# EAGLE library part CH32V303RCT6 (library _mtvl_ic)
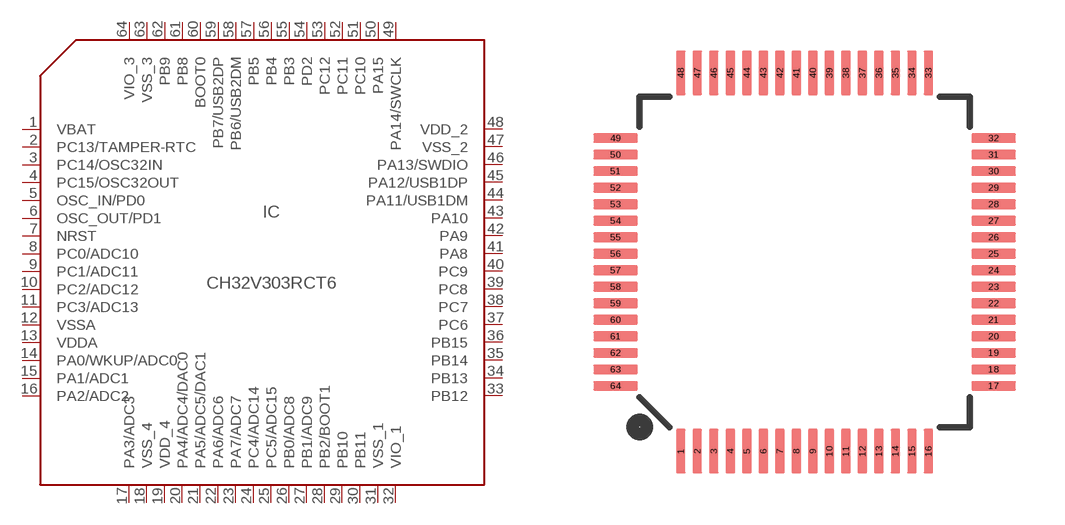
[diagram p65: symbol with the pads of LQFP-64; footprint LQFP-64]

Designator prefix IC

## CH32V303RCT6  [LQFP-64]
1  VBAT  in
2  PC13/TAMPER-RTC
3  PC14/OSC32IN
4  PC15/OSC32OUT
5  OSC_IN/PD0
6  OSC_OUT/PD1
7  NRST  in
8  PC0/ADC10
9  PC1/ADC11
10  PC2/ADC12
11  PC3/ADC13
12  VSSA  sup
13  VDDA  sup
14  PA0/WKUP/ADC0
15  PA1/ADC1
16  PA2/ADC2
17  PA3/ADC3
18  VSS_4  sup
19  VDD_4  sup
20  PA4/ADC4/DAC0
21  PA5/ADC5/DAC1
22  PA6/ADC6
23  PA7/ADC7
24  PC4/ADC14
25  PC5/ADC15
26  PB0/ADC8
27  PB1/ADC9
28  PB2/BOOT1
29  PB10
30  PB11
31  VSS_1  sup
32  VIO_1  sup
33  PB12
34  PB13
35  PB14
36  PB15
37  PC6
38  PC7
39  PC8
40  PC9
41  PA8
42  PA9
43  PA10
44  PA11/USB1DM
45  PA12/USB1DP
46  PA13/SWDIO
47  VSS_2  sup
48  VDD_2  sup
49  PA14/SWCLK
50  PA15
51  PC10
52  PC11
53  PC12
54  PD2
55  PB3
56  PB4
57  PB5
58  PB6/USB2DM
59  PB7/USB2DP
60  BOOT0  in
61  PB8
62  PB9
63  VSS_3
64  VIO_3

## Footprint LQFP-64 (pad centres in mm)
smd 0.29 x 1.35: 1 -3.75,-5.725; 2 -3.25,-5.725; 3 -2.75,-5.725; 4 -2.25,-5.725; 5 -1.75,-5.725; 6 -1.25,-5.725; 7 -0.75,-5.725; 8 -0.25,-5.725; 9 0.25,-5.725; 10 0.75,-5.725; 11 1.25,-5.725; 12 1.75,-5.725; 13 2.25,-5.725; 14 2.75,-5.725; 15 3.25,-5.725; 16 3.75,-5.725; 33 3.75,5.725; 34 3.25,5.725; 35 2.75,5.725; 36 2.25,5.725; 37 1.75,5.725; 38 1.25,5.725; 39 0.75,5.725; 40 0.25,5.725; 41 -0.25,5.725; 42 -0.75,5.725; 43 -1.25,5.725; 44 -1.75,5.725; 45 -2.25,5.725; 46 -2.75,5.725; 47 -3.25,5.725; 48 -3.75,5.725
smd 1.35 x 0.29: 17 5.725,-3.75; 18 5.725,-3.25; 19 5.725,-2.75; 20 5.725,-2.25; 21 5.725,-1.75; 22 5.725,-1.25; 23 5.725,-0.75; 24 5.725,-0.25; 25 5.725,0.25; 26 5.725,0.75; 27 5.725,1.25; 28 5.725,1.75; 29 5.725,2.25; 30 5.725,2.75; 31 5.725,3.25; 32 5.725,3.75; 49 -5.725,3.75; 50 -5.725,3.25; 51 -5.725,2.75; 52 -5.725,2.25; 53 -5.725,1.75; 54 -5.725,1.25; 55 -5.725,0.75; 56 -5.725,0.25; 57 -5.725,-0.25; 58 -5.725,-0.75; 59 -5.725,-1.25; 60 -5.725,-1.75; 61 -5.725,-2.25; 62 -5.725,-2.75; 63 -5.725,-3.25; 64 -5.725,-3.75